# Altium schematic symbol library Isolated_DCDC_5V.SchLib: 1 symbol
Pins are listed as number, name and electrical type; pins without a type are passive.

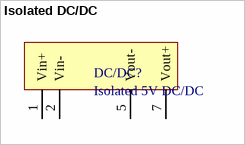
[diagram p0: symbol Isolated DC/DC]

## Isolated DC/DC
designator DC/DC?, comment Isolated 5V DC/DC
RKZE-0505S/H Isolated DC/DC Converters 2W 05Vin 5Vout 400mA Single SIP7
footprint Isolated DC/DC (Isolated DC/DC Converters 2W 05Vin 5Vout 400mA Single SIP7)
pins: 1 Vin+, 2 Vin-, 5 Vout-, 7 Vout+